# EAGLE library part AP6256 (library AP6256)
WiFi 11ac + Bluetooth V5.0 Module Source: Datasheet <https://dl.radxa.com/rockpi4/docs/hw/datasheets/AP6256 datasheet_V1.3_12202017.pdf>
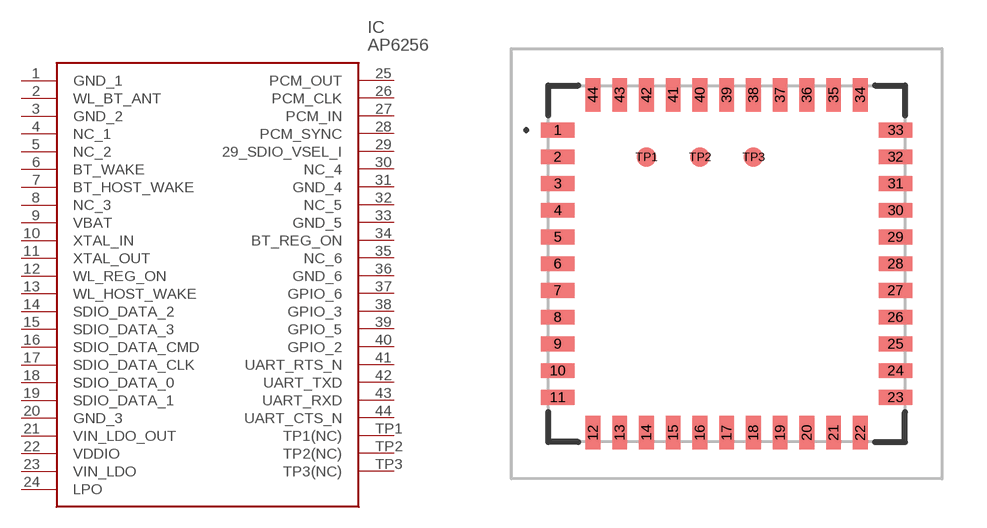
[diagram p0: symbol with the pads of AP6256; footprint AP6256]

Designator prefix IC

## AP6256 (Description: WiFi 11ac + Bluetooth V5.0 Module; Height: 1.6mm; Manufacturer_Name: AMPAK; Manufacturer_Part_Number: AP6256)  [AP6256]
1  GND_1
2  WL_BT_ANT
3  GND_2
4  NC_1
5  NC_2
6  BT_WAKE
7  BT_HOST_WAKE
8  NC_3
9  VBAT
10  XTAL_IN
11  XTAL_OUT
12  WL_REG_ON
13  WL_HOST_WAKE
14  SDIO_DATA_2
15  SDIO_DATA_3
16  SDIO_DATA_CMD
17  SDIO_DATA_CLK
18  SDIO_DATA_0
19  SDIO_DATA_1
20  GND_3
21  VIN_LDO_OUT
22  VDDIO
23  VIN_LDO
24  LPO
25  PCM_OUT
26  PCM_CLK
27  PCM_IN
28  PCM_SYNC
29  29_SDIO_VSEL_I
30  NC_4
31  GND_4
32  NC_5
33  GND_5
34  BT_REG_ON
35  NC_6
36  GND_6
37  GPIO_6
38  GPIO_3
39  GPIO_5
40  GPIO_2
41  UART_RTS_N
42  UART_TXD
43  UART_RXD
44  UART_CTS_N
TP1  TP1(NC)
TP2  TP2(NC)
TP3  TP3(NC)

## Footprint AP6256 (pad centres in mm)
AP6256
smd 1.125 x 0.5: 1 -5.688,4.5; 2 -5.688,3.6; 3 -5.688,2.7; 4 -5.688,1.8; 5 -5.688,0.9; 6 -5.688,0; 7 -5.688,-0.9; 8 -5.688,-1.8; 9 -5.688,-2.7; 10 -5.688,-3.6; 11 -5.688,-4.5; 23 5.688,-4.5; 24 5.688,-3.6; 25 5.688,-2.7; 26 5.688,-1.8; 27 5.688,-0.9; 28 5.688,0; 29 5.688,0.9; 30 5.688,1.8; 31 5.688,2.7; 32 5.688,3.6; 33 5.688,4.5
smd 0.5 x 1.125: 12 -4.5,-5.688; 13 -3.6,-5.688; 14 -2.7,-5.688; 15 -1.8,-5.688; 16 -0.9,-5.688; 17 0,-5.688; 18 0.9,-5.688; 19 1.8,-5.688; 20 2.7,-5.688; 21 3.6,-5.688; 22 4.5,-5.688; 34 4.5,5.688; 35 3.6,5.688; 36 2.7,5.688; 37 1.8,5.688; 38 0.9,5.688; 39 0,5.688; 40 -0.9,5.688; 41 -1.8,5.688; 42 -2.7,5.688; 43 -3.6,5.688; 44 -4.5,5.688
smd 0.65 x 0.65: TP1 -2.7,3.6; TP2 -0.9,3.6; TP3 0.9,3.6